# EAGLE library part NACHTELK_COMMUNICATION-RF_RFM75 (library NachtElk_Communication_RF)
Nacht Elk. - Comunication RF Technologies Ekrem Turan Fırat Nacht Elk. - RFM75 Company: HopeRF Model: RFM75-S Operating Voltage: 1,9V up to 3,6V Frequency Range: 2400 MHz up to 2483.5 MHz Serial Standart: SPI Transmission Distance: Open Line of Sight: 80m up to 150m Operating temperature: -40 °C up to +85°C Package: RFM75-S Datasheet <https://www.hoperf.com/data/upload/portal/20190307/RFM75%20Datasheet%20v2.0.pdf> 28.06.2022
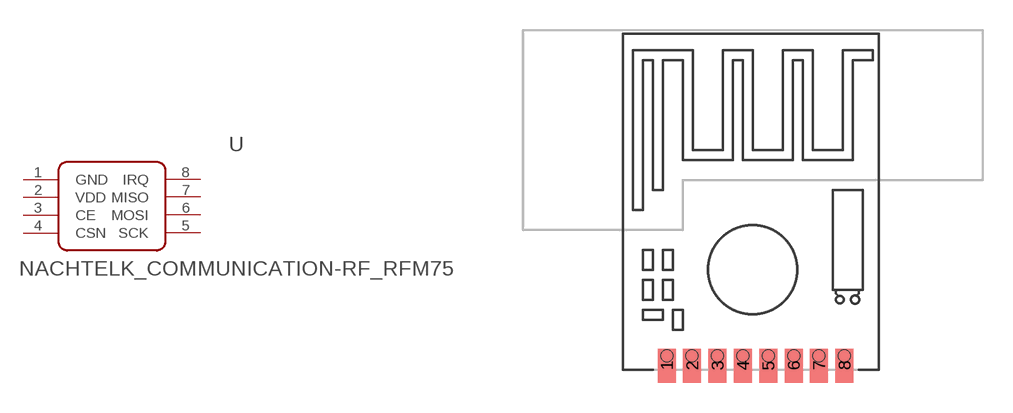
[diagram p0: symbol with the pads of RFM75; footprint RFM75]

Designator prefix U

## NACHTELK_COMMUNICATION-RF_RFM75 (DIGI-KEY_NUMBER: RFM75-S-ND; FREQUENCY: 2.4GHz; MOUNT-TYPE: SMD; PACKAGE: RFM75-S; PART-NUMBER: RFM75-S; SERIAL-STANDART: SPI; TEMPERATURE: -40°C up to 85°C; VALUE: RFM75-S; VOLTAGE: 1,9V up to 3,6V)  [RFM75]
1  GND  pwr
2  VDD  pwr
3  CE
4  CSN
5  SCK
6  MOSI
7  MISO
8  IRQ

## Footprint RFM75 (pad centres in mm)
Nacht Elk. - Comunication RF Technologies Ekrem Turan Fırat Nacht Elk. - RFM75 Package: RFM75-S Datasheet <https://www.hoperf.com/data/upload/portal/20190307/RFM75%20Datasheet%20v2.0.pdf> 28.06.2022
smd 0.9 x 1.7: 1 2.2,0.2; 2 3.47,0.2; 3 4.74,0.2; 4 6.01,0.2; 5 7.28,0.2; 6 8.55,0.2; 7 9.82,0.2; 8 11.09,0.2
hole 0.6 at 2.2,0.7
hole 0.6 at 3.47,0.7
hole 0.6 at 4.74,0.7
hole 0.6 at 6.01,0.7
hole 0.6 at 7.28,0.7
hole 0.6 at 8.55,0.7
hole 0.6 at 9.82,0.7
hole 0.6 at 11.09,0.7